# EAGLE library part CREALITY_V2.4.7 (library PNP_v23)
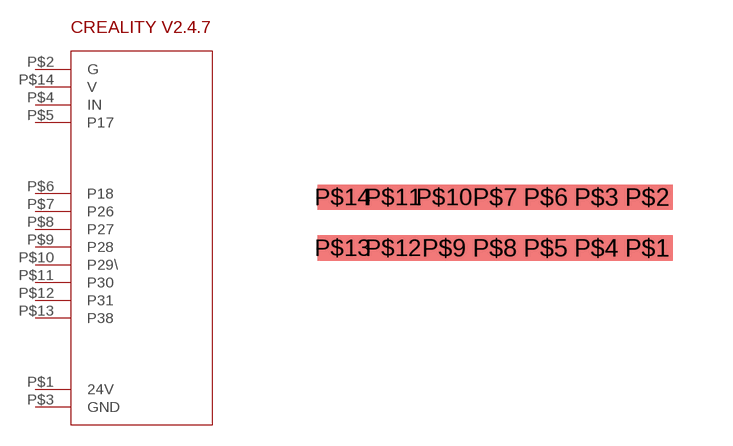
[diagram p0: symbol with the pads of CREALITY_V2.4.7; footprint CREALITY_V2.4.7]

Designator prefix -

## CREALITY_V2.4.7  [CREALITY_V2.4.7]
P$1  24V
P$2  G
P$3  GND
P$4  IN
P$5  P17
P$6  P18
P$7  P26
P$8  P27
P$9  P28
P$10  P29\
P$11  P30
P$12  P31
P$13  P38
P$14  V

## Footprint CREALITY_V2.4.7 (pad centres in mm)
smd 1.27 x 0.635: P$1 0,0; P$2 0,1.27; P$3 -1.27,1.27; P$4 -1.27,0; P$5 -2.54,0; P$6 -2.54,1.27; P$7 -3.81,1.27; P$8 -3.81,0; P$9 -5.08,0; P$10 -5.08,1.27; P$11 -6.35,1.27; P$12 -6.35,0; P$13 -7.62,0; P$14 -7.62,1.27